# EAGLE library part W25Q32JVSSIQ (library WISE)
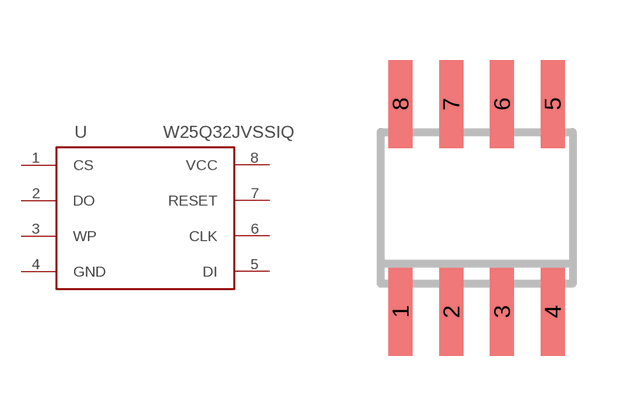
[diagram p7: symbol with the pads of SO8; footprint SO8]

Designator prefix -

## W25Q32JVSSIQ  [SO8]
1  CS
2  DO
3  WP
4  GND
5  DI
6  CLK
7  RESET
8  VCC

## Footprint SO8 (pad centres in mm)
8-Lead Small Outline IC (SO-8) Source: http://www.analog.com/UploadedFiles/Data_Sheets/703465986AD8611_2_0.pdf
smd 0.6 x 2.2: 1 -1.905,-2.6; 2 -0.635,-2.6; 3 0.635,-2.6; 4 1.905,-2.6; 5 1.905,2.6; 6 0.635,2.6; 7 -0.635,2.6; 8 -1.905,2.6